# Altium schematic symbol library connector_16pin.SchLib: 1 symbol
Pins are listed as number, name and electrical type; pins without a type are passive.

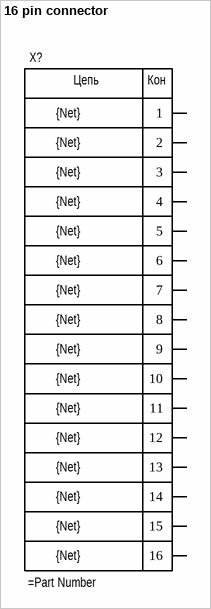
[diagram p0: symbol 16 pin connector]

## 16 pin connector
designator X?  Parameter 7: {Net}
Parameter 6: {Net}; Parameter 5: {Net}; Parameter 4: {Net}; Parameter 2: {Net}; Parameter 3: {Net}; Parameter 8: {Net}; Parameter 9: {Net}; Parameter 10: {Net}; Parameter 11: {Net}; Parameter 12: {Net}; Parameter 13: {Net}; Parameter 14: {Net}; Parameter 15: {Net}; Parameter 16: {Net}; Parameter 1: {Net}
pins: 1, 2, 3, 4, 5, 6, 7, 8, 9, 10, 11, 12, 13, 14, 15, 16
text: Цепь; Кон